# Altium schematic symbol library Diodes.SchLib: 5 symbols
Pins are listed as number, name and electrical type; pins without a type are passive.

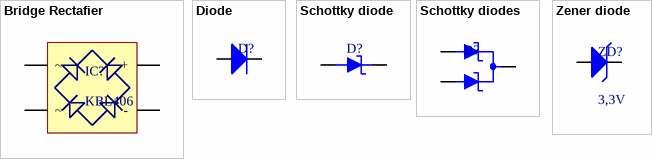
[diagram p0: symbols Bridge Rectafier to Zener diode]

## Bridge Rectafier
designator IC?, comment KBL406
footprint Rectafier
pins: 1 +, 2 ~, 3 ~, 4 -

## Diode
designator D?
footprint SOD 80 (SOD, 2 Leads; Body 3.7 x 1.6 mm, (LxW))
footprint Diode TH 6mm
pins: 1 A, 2 K

## Schottky diode
designator D?, comment Dual  (value not drawn)
Single diode
footprint TO-277A
pins: 1, 2, 3

## Schottky diodes
designator D?, comment Dual  (value not drawn)
Dual diode
footprint TO-262AA (Surface moun; Pitch 2.28 mm)
pins: 1, 2, 3

## Zener diode
designator ZD?, comment 3,3V
BrakeDownVoltage: 3,3V
footprint SOD 80 (SOD, 2 Leads; Body 3.7 x 1.6 mm, (LxW))
footprint Diode TH 6mm
pins: 1 A, 2 K